# Altium footprint library NPTC041KFXC-RC.PcbLib: 1 footprints
Each footprint in its own frame and in the unit in brackets; x right, y up, seen from the top. Pads: shape width x height; smd on the part's side, far side on the other; paste and mask are expansions set on the pad; w line width, h text height; cw(c..) or ccw(c..) is an arc to the next point about the centre after c.
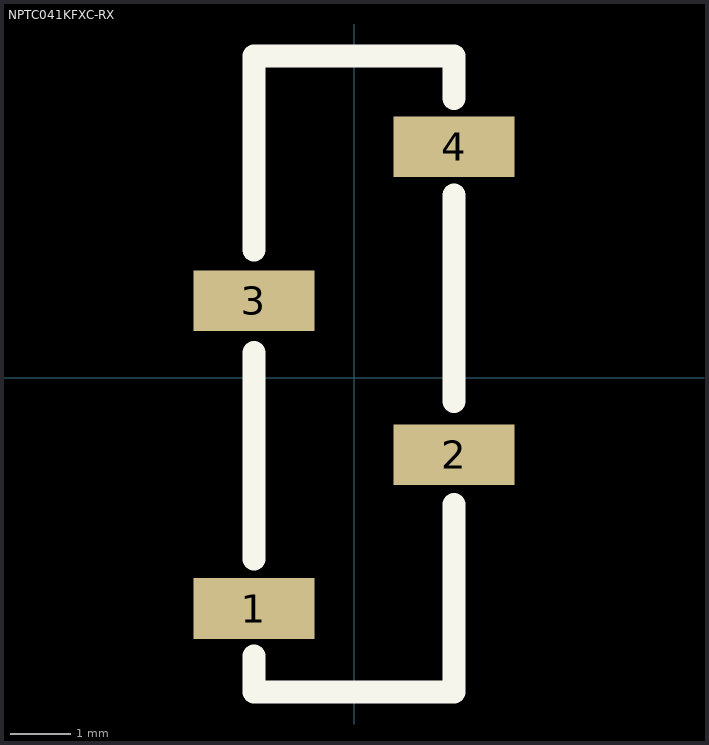
[diagram p0: the footprint, top view; thin cyan lines are the x and y axes]

## NPTC041KFXC-RX [mm]
pads (4):
  rect 2x1 smd: 1(-1.65,-3.81) 2(1.65,-1.27) 3(-1.65,1.27) 4(1.65,3.81)
Top Overlay:
  lines w0.381: -1.65,-4.59 -1.65,-5.19 1.65,-5.19 1.65,-2.09 ; -1.65,-2.99 -1.65,0.41 ; -1.65,2.11 -1.65,5.31 1.65,5.31 1.65,4.61 ; 1.65,-0.39 1.65,3.01
3D body "NPTC041KFXC-RC.STEP": height 7.51, standoff 0.01, extent -2.15,-5.07 2.15,5.09